# Altium footprint library Реле.PcbLib: 10 footprints
Each footprint in its own frame and in the unit in brackets; x right, y up, seen from the top. Pads: shape width x height; smd on the part's side, far side on the other; paste and mask are expansions set on the pad; w line width, h text height; cw(c..) or ccw(c..) is an arc to the next point about the centre after c.
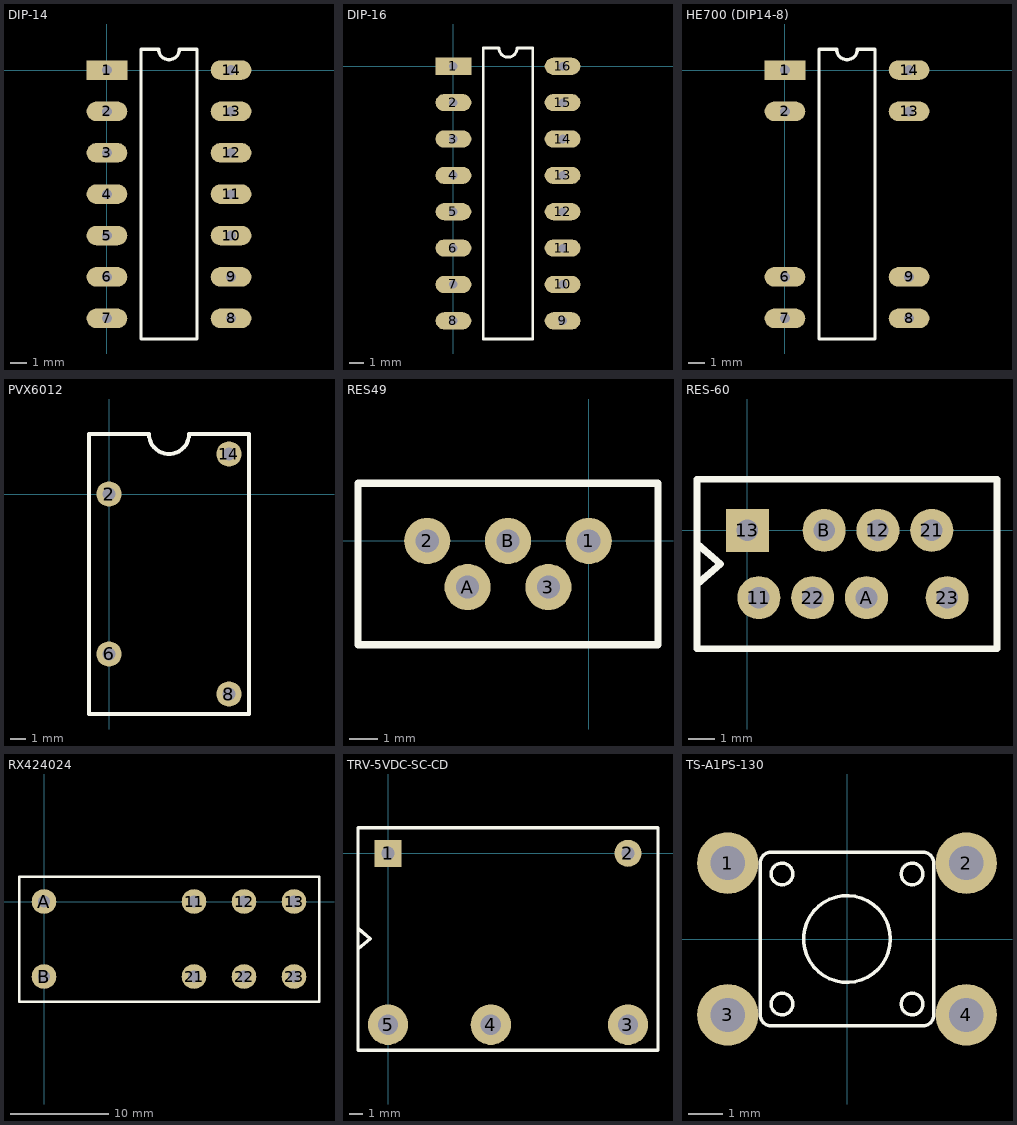
[diagram p0: the footprints below, top view; thin cyan lines are the x and y axes]

## DIP-14 [mm]
pads (14):
  rect 2.5x1.2 hole 0.6: 1(0,0)
  oval 2.5x1.2 hole 0.6: 2(0,-2.54) 3(0,-5.08) 4(0,-7.62) 5(0,-10.16) 6(0,-12.7) 7(0,-15.24) 8(7.62,-15.24) 9(7.62,-12.7) 10(7.62,-10.16) 11(7.62,-7.62) 12(7.62,-5.08) 13(7.62,-2.54) 14(7.62,0)
Top Overlay:
  lines w0.2: 2.085,-16.51 2.085,1.27 3.175,1.27 ccw(c3.81,1.27) 4.445,1.27 5.535,1.27 5.535,-16.51 2.085,-16.51

## DIP-16 [mm]
pads (16):
  rect 2.5x1.2 hole 0.6: 1(0,0)
  oval 2.5x1.2 hole 0.6: 2(0,-2.54) 3(0,-5.08) 4(0,-7.62) 5(0,-10.16) 6(0,-12.7) 7(0,-15.24) 8(0,-17.78) 9(7.62,-17.78) 10(7.62,-15.24) 11(7.62,-12.7) 12(7.62,-10.16) 13(7.62,-7.62) 14(7.62,-5.08) 15(7.62,-2.54) 16(7.62,0)
Top Overlay:
  lines w0.2: 2.085,-19.05 2.085,1.27 3.175,1.27 ccw(c3.81,1.27) 4.445,1.27 5.535,1.27 5.535,-19.05 2.085,-19.05

## HE700 (DIP14-8) [mm]
pads (8):
  rect 2.5x1.2 hole 0.6: 1(0,0)
  oval 2.5x1.2 hole 0.6: 2(0,-2.54) 6(0,-12.7) 7(0,-15.24) 8(7.62,-15.24) 9(7.62,-12.7) 13(7.62,-2.54) 14(7.62,0)
Top Overlay:
  lines w0.2: 2.085,-16.51 2.085,1.27 3.175,1.27 ccw(c3.81,1.27) 4.445,1.27 5.535,1.27 5.535,-16.51 2.085,-16.51
3D body "User Library-integrated circuit DIP14_ko_X2_0144_X0_c_S_swka lutownicza_MIR.sldprt": height 2.54, standoff -3.12, extent -0.127,-13.45 3.683,-11.95
3D body "User Library-integrated circuit DIP14_ko_X2_0144_X0_c_S_swka lutownicza.sldprt": height 2.54, standoff -3.12, extent 3.937,-15.99 7.747,-14.49
3D body "User Library-integrated circuit DIP14_ko_X2_0144_X0_c_S_swka lutownicza.sldprt": height 2.54, standoff -3.12, extent 3.937,-13.45 7.747,-11.95
3D body "User Library-integrated circuit DIP14_ko_X2_0144_X0_c_S_swka lutownicza.sldprt": height 2.54, standoff -3.12, extent 3.937,-3.29 7.747,-1.79
3D body "User Library-integrated circuit DIP14_ko_X2_0144_X0_c_S_swka lutownicza.sldprt": height 2.54, standoff -3.12, extent 3.937,-0.75 7.747,0.75
3D body "User Library-integrated circuit DIP14_ko_X2_0144_X0_c_S_swka lutownicza_MIR.sldprt": height 2.54, standoff -3.12, extent -0.127,-15.99 3.683,-14.49
3D body "User Library-integrated circuit DIP14_ko_X2_0144_X0_c_S_swka lutownicza_MIR.sldprt": height 2.54, standoff -3.12, extent -0.127,-3.29 3.683,-1.79
3D body "User Library-integrated circuit DIP14_ko_X2_0144_X0_c_S_swka lutownicza_MIR.sldprt": height 2.54, standoff -3.12, extent -0.127,-0.75 3.683,0.75
3D body "User Library-integrated circuit DIP14_korpus plastykowy.sldprt": height 3.99, standoff 0.69, extent 0.432,-17.27 7.112,2.03

## PCBComponent_1 [mm]

## PVX6012 [mm]
pads (4):
  round 1.6 hole 0.8: 2(0,0) 6(0,-10.16) 8(7.62,-12.7) 14(7.62,2.54)
Top Overlay:
  lines w0.254: -1.27,-13.97 8.89,-13.97 8.89,3.81 5.08,3.81 cw(c3.81,3.81) 2.54,3.81 -1.27,3.81 -1.27,-13.97

## RES49 [mm]
pads (5):
  round 1.6 hole 0.8: 1(0,0) 2(-5.6,0) 3(-1.4,-1.6) A(-4.2,-1.6) B(-2.8,0)
Top Overlay:
  lines w0.254: -8,-3.6 2.4,-3.6 2.4,2 -8,2 -8,-3.6

## RES-60 [mm]
pads (8):
  round 1.6 hole 0.8: 11(0.425,-2.5) 12(4.85,0) 21(6.85,0) 22(2.425,-2.5) 23(7.425,-2.5) A(4.425,-2.5) B(2.85,0)
  rect 1.6x1.6 hole 0.8: 13(0,0)
Top Overlay:
  lines w0.254: -1.875,-2 -1,-1.25 -1.875,-0.5 ; -1.875,-4.4 9.275,-4.4 9.275,1.9 -1.875,1.9 -1.875,-4.4

## RX424024 [mm]
pads (8):
  round 2.5 hole 1.2: 11(15.24,0) 12(20.32,0) 13(25.4,0) 21(15.24,-7.62) 22(20.32,-7.62) 23(25.4,-7.62) A(0,0) B(0,-7.62)
Top Overlay:
  lines w0.254: -2.54,-10.16 20.32,-10.16 27.94,-10.16 27.94,2.54 -2.54,2.54 -2.54,-10.16

## TRV-5VDC-SC-CD [mm]
pads (5):
  rect 2x2 hole 1: 1(0,0)
  round 2 hole 1: 2(17.78,0)
  round 3 hole 1.5: 3(17.78,-12.7) 4(7.62,-12.7) 5(0,-12.7)
Top Overlay:
  lines w0.254: -2.222,-14.605 -2.222,1.905 ; -2.197,-14.61 20.002,-14.605 20.002,1.905 -2.197,1.9 ; -2.197,-7.08 -1.322,-6.33 -2.197,-5.58
3D body "hf8.stp": height 14.19, standoff -4.31, extent -9.419,-24.624 27.266,11.895

## TS-A1PS-130 [mm]
pads (4):
  round 1.8 hole 1: 1(-3.492,2.222) 2(3.492,2.222) 3(-3.492,-2.222) 4(3.492,-2.222)
Top Overlay:
  circle w0.1: c-1.905,1.905 r0.318
  circle w0.1: c-1.905,-1.905 r0.318
  circle w0.1: c1.905,1.905 r0.318
  circle w0.1: c1.905,-1.905 r0.318
  circle w0.1: c0,0 r1.27
  lines w0.1: -2.54,-2.222 ccw(c-2.222,-2.222) -2.222,-2.54 2.222,-2.54 ccw(c2.222,-2.222) 2.54,-2.222 2.54,2.222 ccw(c2.222,2.222) 2.222,2.54 -2.222,2.54 ccw(c-2.222,2.222) -2.54,2.222 -2.54,-2.222